# EAGLE library part MPL115A2 (library nonolith)
MPL115A2 (I2C) Miniature Digital Barometer 5.0x3.0x1.2mm LGA Package
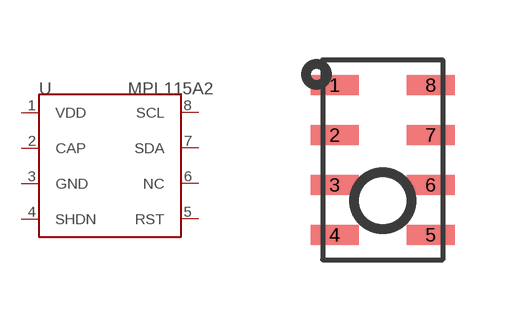
[diagram p24: symbol with the pads of LGA-8; footprint LGA-8]

Designator prefix U

## MPL115A2  [LGA-8]
1  VDD
2  CAP
3  GND
4  SHDN
5  RST
6  NC
7  SDA
8  SCL

## Footprint LGA-8 (pad centres in mm)
LGA8 Package 5.0x3.0x1.2mm
smd 1.2 x 0.5: 1 -1.2,1.875; 2 -1.2,0.625; 3 -1.2,-0.625; 4 -1.2,-1.875; 5 1.2,-1.875; 6 1.2,-0.625; 7 1.2,0.625; 8 1.2,1.875